# EAGLE library part M3822X(80PIN) (library renesas_mcu)
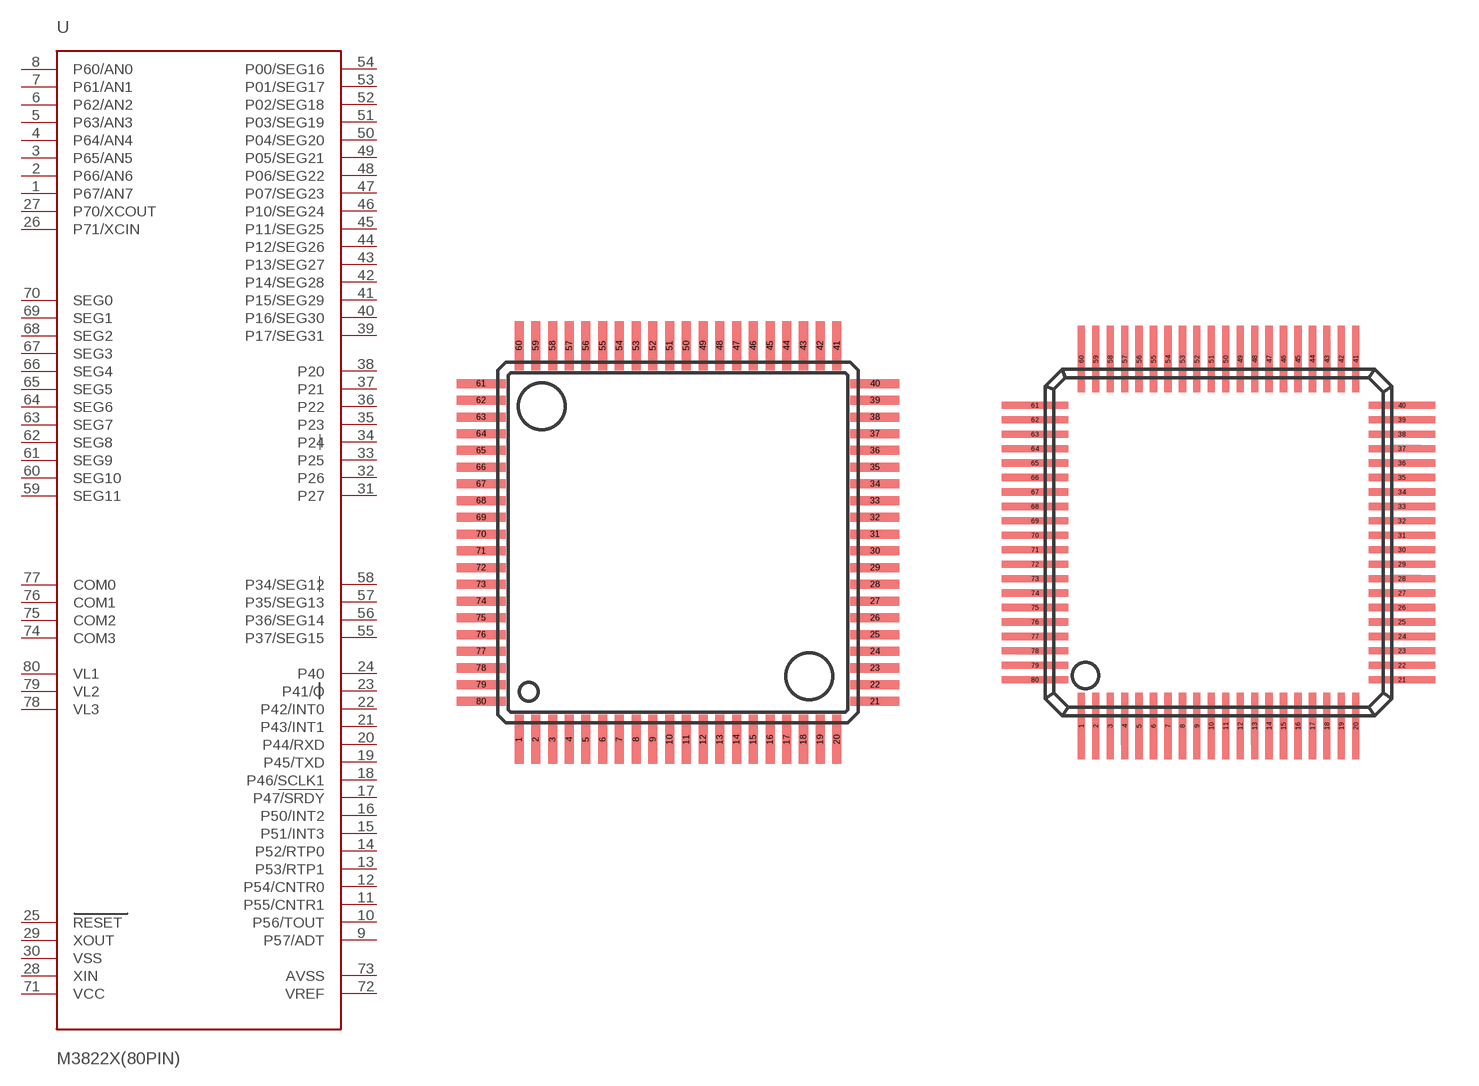
[diagram p31: symbol with the pads of 80P6S-A; footprints 80P6S-A, 80P6Q-A]

Designator prefix -

## M3822X(80PIN)2  [80P6S-A]
1  P67/AN7
2  P66/AN6
3  P65/AN5
4  P64/AN4
5  P63/AN3
6  P62/AN2
7  P61/AN1
8  P60/AN0
9  P57/ADT
10  P56/TOUT
11  P55/CNTR1
12  P54/CNTR0
13  P53/RTP1
14  P52/RTP0
15  P51/INT3
16  P50/INT2
17  P47/SRDY
18  P46/SCLK1
19  P45/TXD
20  P44/RXD
21  P43/INT1
22  P42/INT0
23  P41/O
24  P40  in
25  RESET  in
26  P71/XCIN
27  P70/XCOUT
28  XIN  in
29  XOUT  out
30  VSS  pwr
31  P27
32  P26
33  P25
34  P24
35  P23
36  P22
37  P21
38  P20
39  P17/SEG31
40  P16/SEG30
41  P15/SEG29
42  P14/SEG28
43  P13/SEG27
44  P12/SEG26
45  P11/SEG25
46  P10/SEG24
47  P07/SEG23
48  P06/SEG22
49  P05/SEG21
50  P04/SEG20
51  P03/SEG19
52  P02/SEG18
53  P01/SEG17
54  P00/SEG16
55  P37/SEG15
56  P36/SEG14
57  P35/SEG13
58  P34/SEG12
59  SEG11  out
60  SEG10  out
61  SEG9  out
62  SEG8  out
63  SEG7  out
64  SEG6  out
65  SEG5  out
66  SEG4  out
67  SEG3  out
68  SEG2  out
69  SEG1  out
70  SEG0  out
71  VCC  pwr
72  VREF  in
73  AVSS  in
74  COM3  out
75  COM2  out
76  COM1  out
77  COM0  out
78  VL3  in
79  VL2  in
80  VL1  in

## M3822X(80PIN)3  [80P6Q-A]
Pads as for 80P6S-A

## M3822X(80PIN)4  [80P6N-A(SOCKET)]
1  VL2  in
2  VL1  in
3  P67/AN7
4  P66/AN6
5  P65/AN5
6  P64/AN4
7  P63/AN3
8  P62/AN2
9  P61/AN1
10  P60/AN0
11  P57/ADT
12  P56/TOUT
13  P55/CNTR1
14  P54/CNTR0
15  P53/RTP1
16  P52/RTP0
17  P51/INT3
18  P50/INT2
19  P47/SRDY
20  P46/SCLK1
21  P45/TXD
22  P44/RXD
23  P43/INT1
24  P42/INT0
25  P41/O
26  P40  in
27  RESET  in
28  P71/XCIN
29  P70/XCOUT
30  XIN  in
31  XOUT  out
32  VSS  pwr
33  P27
34  P26
35  P25
36  P24
37  P23
38  P22
39  P21
40  P20
41  P17/SEG31
42  P16/SEG30
43  P15/SEG29
44  P14/SEG28
45  P13/SEG27
46  P12/SEG26
47  P11/SEG25
48  P10/SEG24
49  P07/SEG23
50  P06/SEG22
51  P05/SEG21
52  P04/SEG20
53  P03/SEG19
54  P02/SEG18
55  P01/SEG17
56  P00/SEG16
57  P37/SEG15
58  P36/SEG14
59  P35/SEG13
60  P34/SEG12
61  SEG11  out
62  SEG10  out
63  SEG9  out
64  SEG8  out
65  SEG7  out
66  SEG6  out
67  SEG5  out
68  SEG4  out
69  SEG3  out
70  SEG2  out
71  SEG1  out
72  SEG0  out
73  VCC  pwr
74  VREF  in
75  AVSS  in
76  COM3  out
77  COM2  out
78  COM1  out
79  COM0  out
80  VL3  in

## M3822X(80PIN)1  [80P6N-A]
Pads as for 80P6N-A(SOCKET)

## Footprint 80P6S-A (pad centres in mm)
smd 0.35 x 1.9: 1 -6.175,-7.65; 2 -5.525,-7.65; 3 -4.875,-7.65; 4 -4.225,-7.65; 5 -3.575,-7.65; 6 -2.925,-7.65; 7 -2.275,-7.65; 8 -1.625,-7.65; 9 -0.975,-7.65; 10 -0.325,-7.65; 11 0.325,-7.65; 12 0.975,-7.65; 13 1.625,-7.65; 14 2.275,-7.65; 15 2.925,-7.65; 16 3.575,-7.65; 17 4.225,-7.65; 18 4.875,-7.65; 19 5.525,-7.65; 20 6.175,-7.65; 41 6.175,7.65; 42 5.525,7.65; 43 4.875,7.65; 44 4.225,7.65; 45 3.575,7.65; 46 2.925,7.65; 47 2.275,7.65; 48 1.625,7.65; 49 0.975,7.65; 50 0.325,7.65; 51 -0.325,7.65; 52 -0.975,7.65; 53 -1.625,7.65; 54 -2.275,7.65; 55 -2.925,7.65; 56 -3.575,7.65; 57 -4.225,7.65; 58 -4.875,7.65; 59 -5.525,7.65; 60 -6.175,7.65
smd 1.9 x 0.35: 21 7.65,-6.175; 22 7.65,-5.525; 23 7.65,-4.875; 24 7.65,-4.225; 25 7.65,-3.575; 26 7.65,-2.925; 27 7.65,-2.275; 28 7.65,-1.625; 29 7.65,-0.975; 30 7.65,-0.325; 31 7.65,0.325; 32 7.65,0.975; 33 7.65,1.625; 34 7.65,2.275; 35 7.65,2.925; 36 7.65,3.575; 37 7.65,4.225; 38 7.65,4.875; 39 7.65,5.525; 40 7.65,6.175; 61 -7.65,6.175; 62 -7.65,5.525; 63 -7.65,4.875; 64 -7.65,4.225; 65 -7.65,3.575; 66 -7.65,2.925; 67 -7.65,2.275; 68 -7.65,1.625; 69 -7.65,0.975; 70 -7.65,0.325; 71 -7.65,-0.325; 72 -7.65,-0.975; 73 -7.65,-1.625; 74 -7.65,-2.275; 75 -7.65,-2.925; 76 -7.65,-3.575; 77 -7.65,-4.225; 78 -7.65,-4.875; 79 -7.65,-5.525; 80 -7.65,-6.175

## Footprint 80P6Q-A (pad centres in mm)
smd 0.25 x 2.3: 1 -4.75,-6.35; 2 -4.25,-6.35; 3 -3.75,-6.35; 4 -3.25,-6.35; 5 -2.75,-6.35; 6 -2.25,-6.35; 7 -1.75,-6.35; 8 -1.25,-6.35; 9 -0.75,-6.35; 10 -0.25,-6.35; 11 0.25,-6.35; 12 0.75,-6.35; 13 1.25,-6.35; 14 1.75,-6.35; 15 2.25,-6.35; 16 2.75,-6.35; 17 3.25,-6.35; 18 3.75,-6.35; 19 4.25,-6.35; 20 4.75,-6.35; 41 4.75,6.35; 42 4.25,6.35; 43 3.75,6.35; 44 3.25,6.35; 45 2.75,6.35; 46 2.25,6.35; 47 1.75,6.35; 48 1.25,6.35; 49 0.75,6.35; 50 0.25,6.35; 51 -0.25,6.35; 52 -0.75,6.35; 53 -1.25,6.35; 54 -1.75,6.35; 55 -2.25,6.35; 56 -2.75,6.35; 57 -3.25,6.35; 58 -3.75,6.35; 59 -4.25,6.35; 60 -4.75,6.35
smd 2.3 x 0.25: 21 6.35,-4.75; 22 6.35,-4.25; 23 6.35,-3.75; 24 6.35,-3.25; 25 6.35,-2.75; 26 6.35,-2.25; 27 6.35,-1.75; 28 6.35,-1.25; 29 6.35,-0.75; 30 6.35,-0.25; 31 6.35,0.25; 32 6.35,0.75; 33 6.35,1.25; 34 6.35,1.75; 35 6.35,2.25; 36 6.35,2.75; 37 6.35,3.25; 38 6.35,3.75; 39 6.35,4.25; 40 6.35,4.75; 61 -6.35,4.75; 62 -6.35,4.25; 63 -6.35,3.75; 64 -6.35,3.25; 65 -6.35,2.75; 66 -6.35,2.25; 67 -6.35,1.75; 68 -6.35,1.25; 69 -6.35,0.75; 70 -6.35,0.25; 71 -6.35,-0.25; 72 -6.35,-0.75; 73 -6.35,-1.25; 74 -6.35,-1.75; 75 -6.35,-2.25; 76 -6.35,-2.75; 77 -6.35,-3.25; 78 -6.35,-3.75; 79 -6.35,-4.25; 80 -6.35,-4.75

## Footprint 80P6N-A(SOCKET) (pad centres in mm)
for socket
smd 0.5 x 4.6: 1 -9.2,-9.2; 2 -8.4,-9.2; 3 -7.6,-9.2; 4 -6.8,-9.2; 5 -6,-9.2; 6 -5.2,-9.2; 7 -4.4,-9.2; 8 -3.6,-9.2; 9 -2.8,-9.2; 10 -2,-9.2; 11 -1.2,-9.2; 12 -0.4,-9.2; 13 0.4,-9.2; 14 1.2,-9.2; 15 2,-9.2; 16 2.8,-9.2; 17 3.6,-9.2; 18 4.4,-9.2; 19 5.2,-9.2; 20 6,-9.2; 21 6.8,-9.2; 22 7.6,-9.2; 23 8.4,-9.2; 24 9.2,-9.2; 41 9.2,9.2; 42 8.4,9.2; 43 7.6,9.2; 44 6.8,9.2; 45 6,9.2; 46 5.2,9.2; 47 4.4,9.2; 48 3.6,9.2; 49 2.8,9.2; 50 2,9.2; 51 1.2,9.2; 52 0.4,9.2; 53 -0.4,9.2; 54 -1.2,9.2; 55 -2,9.2; 56 -2.8,9.2; 57 -3.6,9.2; 58 -4.4,9.2; 59 -5.2,9.2; 60 -6,9.2; 61 -6.8,9.2; 62 -7.6,9.2; 63 -8.4,9.2; 64 -9.2,9.2
smd 4.3 x 0.5: 25 12.05,-6; 26 12.05,-5.2; 27 12.05,-4.4; 28 12.05,-3.6; 29 12.05,-2.8; 30 12.05,-2; 31 12.05,-1.2; 32 12.05,-0.4; 33 12.05,0.4; 34 12.05,1.2; 35 12.05,2; 36 12.05,2.8; 37 12.05,3.6; 38 12.05,4.4; 39 12.05,5.2; 40 12.05,6; 65 -12.05,6; 66 -12.05,5.2; 67 -12.05,4.4; 68 -12.05,3.6; 69 -12.05,2.8; 70 -12.05,2; 71 -12.05,1.2; 72 -12.05,0.4; 73 -12.05,-0.4; 74 -12.05,-1.2; 75 -12.05,-2; 76 -12.05,-2.8; 77 -12.05,-3.6; 78 -12.05,-4.4; 79 -12.05,-5.2; 80 -12.05,-6

## Footprint 80P6N-A (pad centres in mm)
smd 0.5 x 2.25: 1 -9.2,-8.025; 2 -8.4,-8.025; 3 -7.6,-8.025; 4 -6.8,-8.025; 5 -6,-8.025; 6 -5.2,-8.025; 7 -4.4,-8.025; 8 -3.6,-8.025; 9 -2.8,-8.025; 10 -2,-8.025; 11 -1.2,-8.025; 12 -0.4,-8.025; 13 0.4,-8.025; 14 1.2,-8.025; 15 2,-8.025; 16 2.8,-8.025; 17 3.6,-8.025; 18 4.4,-8.025; 19 5.2,-8.025; 20 6,-8.025; 21 6.8,-8.025; 22 7.6,-8.025; 23 8.4,-8.025; 24 9.2,-8.025; 41 9.2,8.025; 42 8.4,8.025; 43 7.6,8.025; 44 6.8,8.025; 45 6,8.025; 46 5.2,8.025; 47 4.4,8.025; 48 3.6,8.025; 49 2.8,8.025; 50 2,8.025; 51 1.2,8.025; 52 0.4,8.025; 53 -0.4,8.025; 54 -1.2,8.025; 55 -2,8.025; 56 -2.8,8.025; 57 -3.6,8.025; 58 -4.4,8.025; 59 -5.2,8.025; 60 -6,8.025; 61 -6.8,8.025; 62 -7.6,8.025; 63 -8.4,8.025; 64 -9.2,8.025
smd 2.25 x 0.5: 25 11.025,-6; 26 11.025,-5.2; 27 11.025,-4.4; 28 11.025,-3.6; 29 11.025,-2.8; 30 11.025,-2; 31 11.025,-1.2; 32 11.025,-0.4; 33 11.025,0.4; 34 11.025,1.2; 35 11.025,2; 36 11.025,2.8; 37 11.025,3.6; 38 11.025,4.4; 39 11.025,5.2; 40 11.025,6; 65 -11.025,6; 66 -11.025,5.2; 67 -11.025,4.4; 68 -11.025,3.6; 69 -11.025,2.8; 70 -11.025,2; 71 -11.025,1.2; 72 -11.025,0.4; 73 -11.025,-0.4; 74 -11.025,-1.2; 75 -11.025,-2; 76 -11.025,-2.8; 77 -11.025,-3.6; 78 -11.025,-4.4; 79 -11.025,-5.2; 80 -11.025,-6